# Altium schematic symbol library OSHW_LuxonisMaster_20201223.SchLib: 185 symbols (part 1 of 10)
Pins are listed as number, name and electrical type; pins without a type are passive.

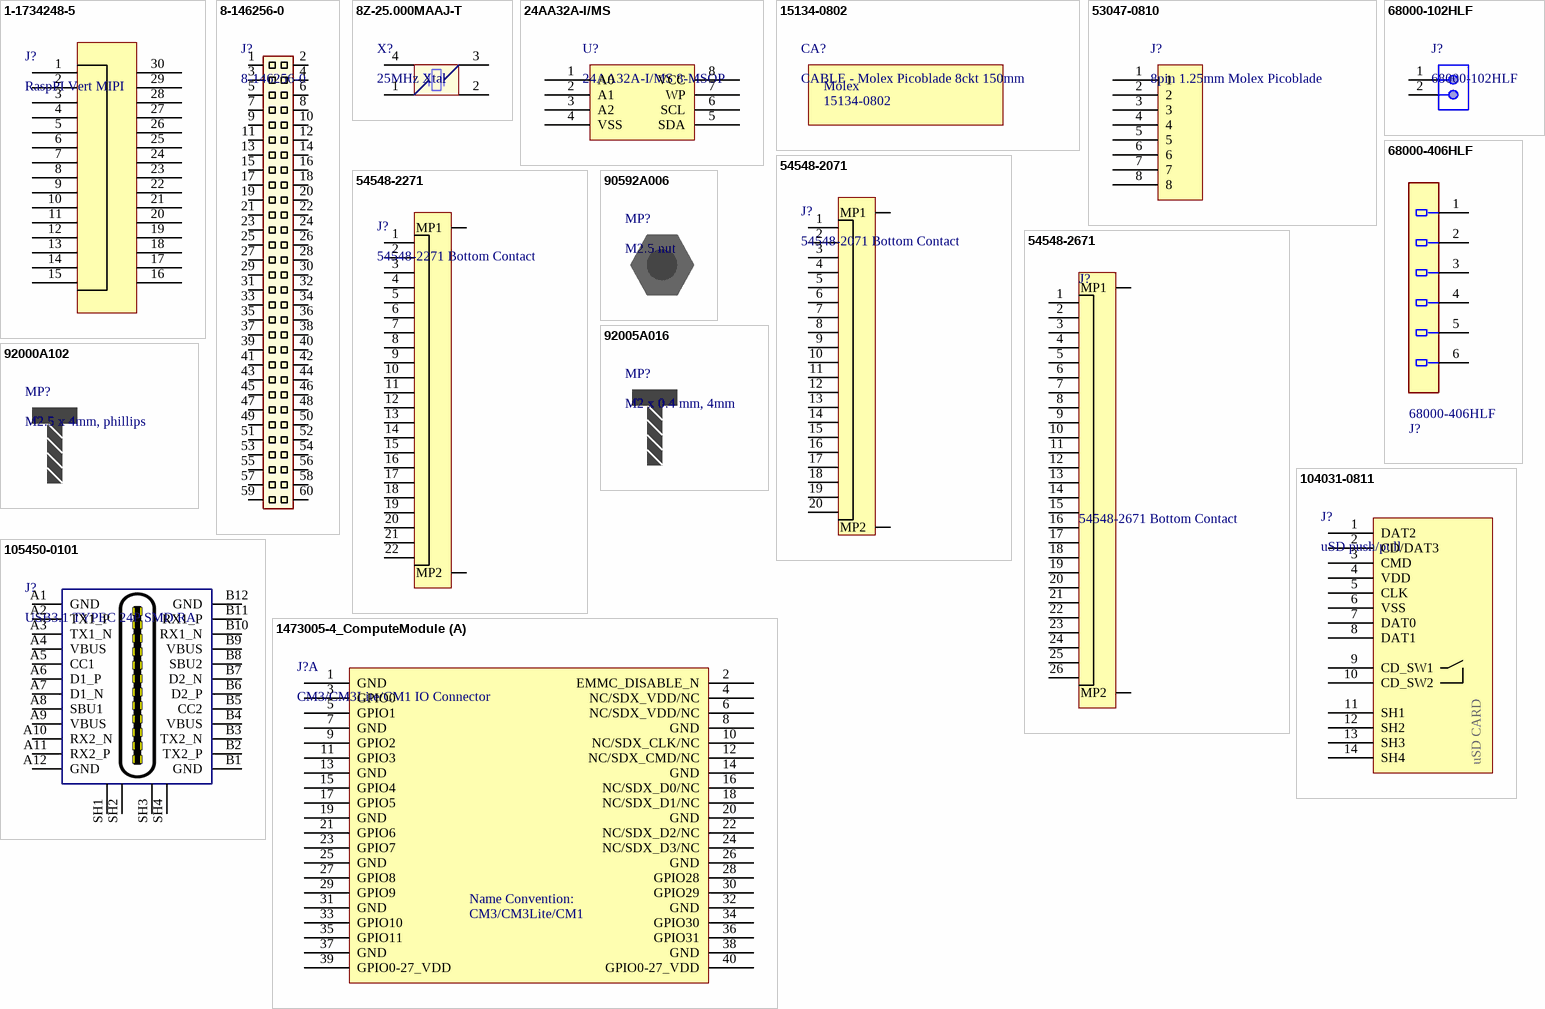
[diagram p0: symbols 1-1734248-5 to 1473005-4_ComputeModule]

## 1-1734248-5
designator J?, comment RaspPI Vert MIPI
CONN FPC VERT 15POS 1.00MM SMD; Manufacturer 1: TE Connectivity; Manufacturer Part Number 1: 1-1734248-5; Current Rating: 1A; Voltage Rating: 125V; Gender: Receptacle; Number of Positions: 15; Shielding: Unshielded; Wire/Cable Type: Flat Flex; Connector System: Flex-to-Board; Mating Alignment: Yes (With); PCB Mount Alignment: No (Without); PCB Mount Retention: With; Circuit Application: Signal; Pitch: 1mm; Supplier 1: Digi-Key; Stock 1: 5251; Pricing 1: 1=1.06000, 10=0.93600, 25=0.88120, 50=0.84460, 100=0.80780, 250=0.73440, 500=0.66094 (USD); RoHS: Yes; Mount: Surface Mount; Contact Plating: Gold; Contact Material: Bronze; Housing Color: Black; Housing Material: Thermoplastic; Min Operating Temperature: -4°C; Max Operating Temperature: 185°C; Package Quantity: 1000; Packaging: Tape and Reel; Number of Rows: 1; Termination: SMD/SMT; Number of Contacts: 15; Orientation: Straight; Connector Type: Receptacle; Sealable: No (Without); Shrouded: Yes (With); Contact Current Rating: 1A; Length: 22.4mm; Height: 7.7mm; Width: 4.6mm; Depth: 4.6mm; ELV: Compliant; REACH SVHC: Unknown; Flammability Rating: UL94 V-0; ComponentLink1URL: https://datasheet.ciiva.com/672/eng-cd-1734248-e1-672176.pdf?src-supplier=Digi-Key; ComponentLink1Description: https://datasheet.ciiva.com/672/eng-cd-1734248-e1-672176.pdf?src-supplier=Digi-Key; ComponentLink2URL: https://datasheet.ciiva.com/672/eng-cd-1734248-e1-672177.pdf?src-supplier=Digi-Key; ComponentLink2Description: https://datasheet.ciiva.com/672/eng-cd-1734248-e1-672177.pdf?src-supplier=Digi-Key; ComponentLink3URL: https://datasheet.ciiva.com/672/eng-cd-1734248-e1-672178.pdf?src-supplier=Digi-Key; ComponentLink3Description: https://datasheet.ciiva.com/672/eng-cd-1734248-e1-672178.pdf?src-supplier=Digi-Key; ComponentLink4URL: https://datasheet.ciiva.com/7989/eng-ds-1-1773440-6-0506-7989477.pdf?src-supplier=Element14; ComponentLink4Description: https://datasheet.ciiva.com/7989/eng-ds-1-1773440-6-0506-7989477.pdf?src-supplier=Element14; ComponentLink5URL: https://datasheet.ciiva.com/16660/eng-ds-1-1773440-6-0506-16660185.pdf?src-supplier=Avnet+Europe; ComponentLink5Description: https://datasheet.ciiva.com/16660/eng-ds-1-1773440-6-0506-16660185.pdf?src-supplier=Avnet+Europe; Supplier Part Number 1: A101418CT-ND; ComponentLink6URL: http://datasheet.octopart.com/1-1734248-5-TE-Connectivity-datasheet-502047.pdf?src-supplier=Master+Electronics; ComponentLink6Description: http://datasheet.octopart.com/1-1734248-5-TE-Connectivity-datasheet-502047.pdf?src-supplier=Master+Electronics; ComponentLink7URL: http://datasheet.octopart.com/1-1734248-5-TE-Connectivity-datasheet-17451040.pdf?src-supplier=Master+Electronics; ComponentLink7Description: http://datasheet.octopart.com/1-1734248-5-TE-Connectivity-datasheet-17451040.pdf?src-supplier=Master+Electronics; ComponentLink8URL: http://sigma.octopart.com/14435098/technical_drawing/TE-Connectivity-1-1734248-5.pdf?src-supplier=TE+Connectivity; ComponentLink8Description: http://sigma.octopart.com/14435098/technical_drawing/TE-Connectivity-1-1734248-5.pdf?src-supplier=TE+Connectivity; ComponentLink9URL: http://sigma.octopart.com/38754746/technical_drawing/TE-Connectivity-1-1734248-5.pdf?src-supplier=TE+Connectivity; ComponentLink9Description: http://sigma.octopart.com/38754746/technical_drawing/TE-Connectivity-1-1734248-5.pdf?src-supplier=TE+Connectivity; ComponentLink10URL: http://datasheet.octopart.com/1-1734248-5-TE-Connectivity-datasheet-137167967.pdf?src-supplier=TE+Connectivity; ComponentLink10Description: http://datasheet.octopart.com/1-1734248-5-TE-Connectivity-datasheet-137167967.pdf?src-supplier=TE+Connectivity; ComponentLink11URL: http://datasheet.octopart.com/1-1734248-5-TE-Connectivity-datasheet-128558361.pdf?src-supplier=X-ON; ComponentLink11Description: http://datasheet.octopart.com/1-1734248-5-TE-Connectivity-datasheet-128558361.pdf?src-supplier=X-ON; ComponentLink12URL: http://datasheet.octopart.com/1-1734248-5-TE-Connectivity---AMP-datasheet-537331.pdf?src-supplier=Newark; ComponentLink12Description: http://datasheet.octopart.com/1-1734248-5-TE-Connectivity---AMP-datasheet-537331.pdf?src-supplier=Newark; ComponentLink13URL: http://datasheet.octopart.com/1-1734248-5-TE-Connectivity---AMP-datasheet-542113.pdf?src-supplier=Newark; ComponentLink13Description: http://datasheet.octopart.com/1-1734248-5-TE-Connectivity---AMP-datasheet-542113.pdf?src-supplier=Newark
footprint CONN_HDR_RaspPi_MIPI (1.27mm, vertical, FPC)
pins: 1, 2, 3, 4, 5, 6, 7, 8, 9, 10, 11, 12, 13, 14, 15, 16, 17, 18, 19, 20, 21, 22, 23, 24, 25, 26, 27, 28, 29, 30

## 8-146256-0
designator J?
CONN HEADER VERT 60POS 2.54MM; Manufacturer 1: TE Connectivity; Number of Positions: 60; Connector Type: Plug; Insulation Resistance: 5GR; Board Standoff: Yes (With); Contact Protection: No (Without); High Speed Serial Data Connector: No; High Temperature Housing: Yes; PCB Mount Retention: Without; PCB Mounting Orientation: Vertical; Contact Current Rating: 3A; Contact Post Length: 0.12inch; PCB Thickness: 0.062inch; Approvals: CSA; RoHS: Yes; Mount: Through Hole; Contact Material: Bronze; Contact Plating: Gold; Color: Black; Housing Color: Black; Housing Material: Thermoplastic; Contact Shape: Square; Min Operating Temperature: -65°C; Max Operating Temperature: 105°C; Package Quantity: 50; Number of Rows: 2; Packaging: Carton; Termination: Through Hole; Number of Contacts: 60; Contact Gender: Male; Orientation: Straight; Gasket: No (Without); Keyed: No; Mating Alignment: No (Without); Mating Connector Lock: No (Without); Selectively Loaded: No (Without); Stabilizers: No (Without); Strain Relief: No (Without); Length: 75.79mm; Pitch: 2.54mm; Row Spacing: 2.54mm; Contact Mating Length: 0.23inch; Depth: 4.88mm; Radiation Hardening: No; ELV: Compliant; Flammability Rating: UL94 V-0; ComponentLink1URL: https://datasheet.ciiva.com/734/eng-cd-146256-g-146256-c-dwg-734694.pdf?src-supplier=Digi-Key; ComponentLink1Description: https://datasheet.ciiva.com/734/eng-cd-146256-g-146256-c-dwg-734694.pdf?src-supplier=Digi-Key; ComponentLink2URL: https://datasheet.ciiva.com/9491/eng-ds-1307819-ampmodu-0811-9491229.pdf?src-supplier=Avnet; ComponentLink2Description: https://datasheet.ciiva.com/9491/eng-ds-1307819-ampmodu-0811-9491229.pdf?src-supplier=Avnet; Supplier 1: Avnet; Manufacturer Part Number 1: 8-146256-0; Stock 1: 2414; Pricing 1: 100=5.54286, 200=5.38889, 300=5.24324, 500=5.10527, 1000=4.97436 (USD); Supplier Part Number 1: 8-146256-0
pins: 1, 2, 3, 4, 5, 6, 7, 8, 9, 10, 11, 12, 13, 14, 15, 16, 17, 18, 19, 20, 21, 22, 23, 24, 25, 26, 27, 28, 29, 30, 31, 32, 33, 34, 35, 36, 37, 38, 39, 40, 41, 42, 43, 44, 45, 46, 47, 48, 49, 50, 51, 52, 53, 54, 55, 56, 57, 58, 59, 60

## 8Z-25.000MAAJ-T
designator X?, comment 25MHz Xtal
CRYSTAL 25.0000MHZ 18PF SMD; Manufacturer 1: TXC; Manufacturer Part Number 1: 8Z-25.000MAAJ-T; Frequency Tolerance: 30ppm; ESR (Equivalent Series Resistance): 100R; Supplier 1: Digi-Key; Stock 1: 7343; Pricing 1: 1=1.36000, 10=1.30100, 50=1.27060, 100=1.08900, 500=1.05876, 1000=0.89238 (USD); RoHS: Yes; Mount: Surface Mount; Case/Package: SMD/SMT; Number of Pins: 4; Min Operating Temperature: -10°C; Max Operating Temperature: 70°C; Frequency: 25MHz; Load Capacitance: 18pF; Packaging: Tape and Reel; Package Quantity: 3000; Tolerance: 30ppm; Frequency Stability: 30ppm; Termination: SMD/SMT; Length: 2.5mm; Height: 0.022inch; Width: 2mm; Depth: 2.05mm; REACH SVHC: No SVHC; Lead Free: Lead Free; ComponentLink1URL: https://datasheet.ciiva.com/26833/getdatasheetpartid-743023-26833236.pdf?src-supplier=Verical; ComponentLink1Description: https://datasheet.ciiva.com/26833/getdatasheetpartid-743023-26833236.pdf?src-supplier=Verical; ComponentLink2URL: https://datasheet.ciiva.com/22698/1041872-22698773.pdf?src-supplier=Element14; ComponentLink2Description: https://datasheet.ciiva.com/22698/1041872-22698773.pdf?src-supplier=Element14; ComponentLink3URL: https://datasheet.ciiva.com/1356/number-crystal-basic-1356678.pdf?src-supplier=Element14; ComponentLink3Description: https://datasheet.ciiva.com/1356/number-crystal-basic-1356678.pdf?src-supplier=Element14; ComponentLink4URL: https://datasheet.ciiva.com/859/8z-859017.pdf?src-supplier=Digi-Key; ComponentLink4Description: https://datasheet.ciiva.com/859/8z-859017.pdf?src-supplier=Digi-Key; ComponentLink5URL: https://datasheet.ciiva.com/859/8z-859018.pdf?src-supplier=Digi-Key; ComponentLink5Description: https://datasheet.ciiva.com/859/8z-859018.pdf?src-supplier=Digi-Key; ComponentLink6URL: https://datasheet.ciiva.com/859/8z-859019.pdf?src-supplier=Digi-Key; ComponentLink6Description: https://datasheet.ciiva.com/859/8z-859019.pdf?src-supplier=Digi-Key; Supplier 2: Mouser; Supplier Part Number 1: 887-1145-1-ND; Supplier Part Number 2: 717-8Z-25.000MAAJ-T
footprint 8Z-25.000MAAJ-T (2.5 x 2.0 x 0.5mm 8Z series XTAL)
pins: 1 OSC1, 2, 3 OSC3, 4

## 24AA32A-I/MS
designator U?, comment 24AA32A-I/MS 8-MSOP
IC EEPROM 32K I2C 400KHZ 8MSOP Memory IC 32Kb (4K x 8) I²C 400kHz 900ns 8-MSOP; Manufacturer 1: Microchip; Interface: I2C,Serial,2-Wire; Access Time: 3500ns; Max Supply Voltage: 5.5V; Min Supply Voltage: 1.7V; Nominal Supply Current: 3mA; Supplier 1: Digi-Key; Stock 1: 4213; Pricing 1: 1=0.39000, 25=0.38120, 100=0.36050 (USD); RoHS: Yes; Mount: Surface Mount; Case/Package: MSOP; Number of Pins: 8; Contact Plating: Tin,Matte; Min Operating Temperature: -40°C; Max Operating Temperature: 85°C; Max Frequency: 400kHz; Frequency: 400kHz; Packaging: Rail/Tube; Density: 32Kb; Memory Size: 32Kb; Package Quantity: 100; Length: 3mm; Height: 0.85mm; Width: 3mm; Radiation Hardening: No; Lead Free: Lead Free; REACH SVHC: No SVHC; ComponentLink1URL: https://datasheet.ciiva.com/16309/filehandler-aspxddocname-en011853-16309808.pdf?src-supplier=Future+Electronics; ComponentLink1Description: https://datasheet.ciiva.com/16309/filehandler-aspxddocname-en011853-16309808.pdf?src-supplier=Future+Electronics; ComponentLink2URL: https://datasheet.ciiva.com/16621/21713l-16621382.pdf?src-supplier=Avnet+Europe; ComponentLink2Description: https://datasheet.ciiva.com/16621/21713l-16621382.pdf?src-supplier=Avnet+Europe; ComponentLink3URL: https://datasheet.ciiva.com/3185/21713l-3185209.pdf?src-supplier=Avnet; ComponentLink3Description: https://datasheet.ciiva.com/3185/21713l-3185209.pdf?src-supplier=Avnet; ComponentLink4URL: https://datasheet.ciiva.com/1154/1688094-1154810.pdf?src-supplier=Element14; ComponentLink4Description: https://datasheet.ciiva.com/1154/1688094-1154810.pdf?src-supplier=Element14; ComponentLink5URL: https://datasheet.ciiva.com/41454/001085239-da-01-en-ic-eeprom-32kbit-24aa32a-i-ms-msop-8-mcp-41454934.pdf?src-supplier=Conrad; ComponentLink5Description: https://datasheet.ciiva.com/41454/001085239-da-01-en-ic-eeprom-32kbit-24aa32a-i-ms-msop-8-mcp-41454934.pdf?src-supplier=Conrad; Supplier Part Number 1: 24AA32A-I/MS-ND; Memory Type: EEPROM; Manufacturer Part Number 1: 24AA32A-I/MS; Supplier 2: Mouser; Supplier 3: Newark; Supplier Part Number 2: 579-24AA32A-I/MS; Supplier Part Number 3: 38AH9658
footprint 24AA32A-I/MS (Body: 3 x 3mm, pitch: 0.65mm)
pins: 1 A0, 2 A1, 3 A2, 4 VSS, 5 SDA, 6 SCL, 7 WP, 8 VCC

## 15134-0802
designator CA?, comment CABLE - Molex Picoblade 8ckt 150mm  Manufacturer Part Number 1: 15134-0802  Manufacturer 1: Molex
CABLE ASSY POWER CORD, 8P CRIMP SOCKET, 150MM, BLK; Supplier 1: Digi-Key; Stock 1: 1432; Pricing 1: 1=5.34000, 10=5.12300, 25=4.69560, 50=4.48220, 100=4.26880, 250=3.73520, 500=3.62848, 1000=3.09488, 2500=2.88144 (USD); RoHS: Yes; Color: Black; ComponentLink1URL: http://www.farnell.com/datasheets/2549566.pdf?src-supplier=Farnell; ComponentLink1Description: http://www.farnell.com/datasheets/2549566.pdf?src-supplier=Farnell; Supplier 2: Mouser; Supplier Part Number 1: WM15274-ND; Supplier Part Number 2: 538-15134-0802
footprint 15134-0802 (Cable Assembly, Single Row, 150.00mm Length, 8 Circuits)

## 53047-0810
designator J?, comment 8pin 1.25mm Molex Picoblade
CONN HEADER VERT 8POS 1.25MM  Connector Header Through Hole 8 position 0.049" (1.25mm); Manufacturer Part Number 1: 53047-0810; Number of Contacts: 8; Contact Resistance: 20mR; Gender: Male; Current Rating: 1A; Voltage Rating: 125V; Insulation Resistance: 100MR; Glow Wire Compliant: Non-compliant; Supplier 1: Digi-Key; Manufacturer 1: Molex; Stock 1: 10707; Pricing 1: 1=0.54000, 10=0.50500, 100=0.38690, 500=0.33644, 1000=0.27756, 5000=0.24392, 10000=0.22710 (USD); RoHS: Yes; Mount: Through Hole; Case/Package: 0810; Contact Plating: Tin; Contact Material: Bronze,Brass,Tin; Color: Natural; Housing Color: Natural; Housing Material: Polyamide; Min Operating Temperature: -40°C; Max Operating Temperature: 85°C; Termination: Through Hole; Number of Rows: 1; Orientation: Vertical; Packaging: Tray; Number of Positions: 8; Package Quantity: 2000; Voltage Rating (DC): 125V; Number of Circuits: 8; Pitch: 1.25mm; Radiation Hardening: No; REACH SVHC: Unknown; Lead Free: Lead Free; Flammability Rating: UL94 V-0; ComponentLink1URL: https://datasheet.ciiva.com/30110/64290530470810-pcb-headers-30110449.pdf?src-supplier=Onlinecomponents.com; ComponentLink1Description: https://datasheet.ciiva.com/30110/64290530470810-pcb-headers-30110449.pdf?src-supplier=Onlinecomponents.com; ComponentLink2URL: https://datasheet.ciiva.com/5155/0530470810-pcb-headers-170988-5155236.pdf?src-supplier=Mouser; ComponentLink2Description: https://datasheet.ciiva.com/5155/0530470810-pcb-headers-170988-5155236.pdf?src-supplier=Mouser; ComponentLink3URL: https://datasheet.ciiva.com/11747/0900766b8024e2fd-11747012.pdf?src-supplier=RSComponents; ComponentLink3Description: https://datasheet.ciiva.com/11747/0900766b8024e2fd-11747012.pdf?src-supplier=RSComponents; ComponentLink4URL: https://datasheet.ciiva.com/25291/1815828-25291355.pdf?src-supplier=Newark; ComponentLink4Description: https://datasheet.ciiva.com/25291/1815828-25291355.pdf?src-supplier=Newark; ComponentLink5URL: https://datasheet.ciiva.com/34303/1932504-34303339.pdf?src-supplier=Jameco; ComponentLink5Description: https://datasheet.ciiva.com/34303/1932504-34303339.pdf?src-supplier=Jameco; ComponentLink6URL: https://datasheet.ciiva.com/16658/0530470810-pcb-headers-16658422.pdf?src-supplier=Avnet+Europe; ComponentLink6Description: https://datasheet.ciiva.com/16658/0530470810-pcb-headers-16658422.pdf?src-supplier=Avnet+Europe; ComponentLink7URL: https://datasheet.ciiva.com/17025/70266944-17025467.pdf?src-supplier=Allied+Electronics; ComponentLink7Description: https://datasheet.ciiva.com/17025/70266944-17025467.pdf?src-supplier=Allied+Electronics; ComponentLink8URL: https://datasheet.ciiva.com/14156/ge116819-116832-e-14156239.pdf?src-supplier=Distrelec; ComponentLink8Description: https://datasheet.ciiva.com/14156/ge116819-116832-e-14156239.pdf?src-supplier=Distrelec; Supplier 2: Mouser; Supplier Part Number 1: WM1737-ND; Supplier Part Number 2: 538-53047-0810
footprint 53047-0810 (1.25mm Pitch, PicoBlade PCB Header, Single Row, Vertical, Through Hole, Tin Plating, Friction Lock, 8 Circuits)
pins: 1, 2, 3, 4, 5, 6, 7, 8

## 54548-2071
designator J?, comment 54548-2071 Bottom Contact
CONN FFC BOTTOM 20POS 0.50MM R/A 20 Position FFC, FPC Connector Contacts, Bottom 0.020" (0.50mm) Surface Mount, Right Angle; Manufacturer_Name: Molex; Actuator Material: Polyphenylene; Current Rating: 500mA; Voltage Rating: 50V; Contact Resistance: 40mR; Number of Positions: 20; Wire/Cable Type: Straight; Pitch: 0.02inch; Datasheet Link: http://www.molex.com/webdocs/datasheets/pdf/en-us//0545482271_FFC_FPC_CONNECTORS.pdf; Height: 1mm; Manufacturer_Part_Number: 54548-2071; Mouser Part Number: 538-54548-2071; Mouser Price/Stock: https://www.mouser.com/Search/Refine.aspx?Keyword=538-54548-2071; Supplier 1: Digi-Key; Manufacturer 1: Molex; Manufacturer Part Number 1: 54548-2071; Stock 1: 15609; Pricing 1: 1=2.57000, 10=2.33100, 25=2.18840, 50=2.09340, 100=1.99820, 250=1.80784 (USD); RoHS: Yes; Mount: Surface Mount; Contact Material: Bronze; Contact Plating: Gold; Housing Color: Black; Housing Material: Polymer; Min Operating Temperature: -20°C; Max Operating Temperature: 85°C; Number of Rows: 1; Termination: Solder; Orientation: Right Angle; Package Quantity: 750; Packaging: Tape and Reel; Mating Cycles: 20; Length: 15.2mm; Depth: 5mm; Radiation Hardening: No; Flammability Rating: UL94 V-0; ComponentLink1URL: https://datasheet.ciiva.com/15244/30580545482071-ffc-fpc-nectors-15244814.pdf?src-supplier=Arrow+Europe; ComponentLink1Description: https://datasheet.ciiva.com/15244/30580545482071-ffc-fpc-nectors-15244814.pdf?src-supplier=Arrow+Europe; Supplier 2: Mouser; Manufacturer 2: Molex; Manufacturer Part Number 2: 54548-2071; Stock 2: 4396; Pricing 2: 1=2.16000, 10=1.90000, 100=1.73000, 250=1.51000, 500=1.47000, 1000=1.25000, 3000=1.16000, 6000=1.12000 (USD); Supplier Part Number 1: WM8829CT-ND; Supplier Part Number 2: 538-54548-2071
footprint 54548-2071 (20pin Molex FFC 0.5mm)
pins: 1, 2, 3, 4, 5, 6, 7, 8, 9, 10, 11, 12, 13, 14, 15, 16, 17, 18, 19, 20, MP1, MP2

## 54548-2271
designator J?, comment 54548-2271 Bottom Contact
CONN FFC BOTTOM 22POS 0.50MM R/A 22 Position FFC, FPC Connector Contacts, Bottom 0.020" (0.50mm) Surface Mount, Right Angle; Manufacturer_Name: Molex; Current Rating: 500mA; Voltage Rating: 50V; Number of Positions: 22; Gender: Receptacle; Stackable: No; Pitch: 0.5mm; Datasheet Link: http://www.molex.com/webdocs/datasheets/pdf/en-us//0545482271_FFC_FPC_CONNECTORS.pdf; Height: 1mm; Manufacturer_Part_Number: 54548-2271; Mouser Part Number: 538-54548-2271; Mouser Price/Stock: https://www.mouser.com/Search/Refine.aspx?Keyword=538-54548-2271; RoHS: Yes; Contact Material: Gold,Bronze; Contact Plating: Tin,Gold; Housing Material: Polymer; Material: Bronze; Package Quantity: 3000; Packaging: Tape and Reel; Termination: SMD/SMT; Number of Rows: 1; Orientation: Right Angle; Number of Contacts: 22; Contact Location: Bottom; Number of Circuits: 22; REACH SVHC: Unknown; ELV: Compliant; ComponentLink1URL: https://datasheet.ciiva.com/5137/0545482271-ffc-fpc-connectors-144074-5137296.pdf?src-supplier=Mouser; ComponentLink1Description: https://datasheet.ciiva.com/5137/0545482271-ffc-fpc-connectors-144074-5137296.pdf?src-supplier=Mouser; Supplier 1: Digi-Key; Manufacturer 1: Molex; Manufacturer Part Number 1: 54548-2271; Stock 1: 2489; Pricing 1: 1=2.59000, 10=2.48700, 25=2.27960, 50=2.17600, 100=2.07240, 250=1.81336, 500=1.76154, 1000=1.50249 (USD); Supplier 2: Mouser; Manufacturer 2: Molex; Manufacturer Part Number 2: 54548-2271; Stock 2: 11105; Pricing 2: 1=1.40000, 10=1.40000, 100=1.40000, 250=1.40000, 500=1.40000, 1000=1.37000, 3000=1.31000, 6000=1.25000 (USD); Supplier Part Number 1: WM8828CT-ND; Supplier Part Number 2: 538-54548-2271
footprint 54548-2271 (22pin Molex FFC 0.5mm)
pins: 1, 2, 3, 4, 5, 6, 7, 8, 9, 10, 11, 12, 13, 14, 15, 16, 17, 18, 19, 20, 21, 22, MP1, MP2

## 54548-2671
designator J?, comment 54548-2671 Bottom Contact
CONN FFC BOTTOM 26POS 0.50MM R/A 26 Position FFC, FPC Connector Contacts, Bottom 0.020" (0.50mm) Surface Mount, Right Angle; Manufacturer_Name: Molex; Actuator Material: Polyphenylene; Current Rating: 500mA; Voltage Rating: 50V; Contact Resistance: 40mR; Number of Positions: 26; Wire/Cable Type: Straight; Pitch: 0.5mm; Datasheet Link: https://www.molex.com/molex/products/datasheet.jsp?part=active/0545482671_FFC_FPC_CONNECTORS.xml&channel=Products&Lang=en-US; Height: 1mm; Manufacturer_Part_Number: 54548-2671; Mouser Part Number: 538-54548-2671; Mouser Price/Stock: https://eu.mouser.com/ProductDetail/Molex/54548-2671?qs=sGAEpiMZZMs7i6cT6ogu49DbkzKdWzYdwOJCTNigfgU%3D; RoHS: Yes; Mount: Surface Mount; Contact Material: Bronze; Contact Plating: Gold; Housing Material: Polymer; Housing Color: Black; Min Operating Temperature: -20°C; Max Operating Temperature: 85°C; Number of Rows: 1; Package Quantity: 750; Packaging: Tape and Reel; Termination: Solder; Number of Contacts: 26; Orientation: Right Angle; Length: 18.2mm; Depth: 5mm; Flammability Rating: UL94 V-0; ComponentLink1URL: https://datasheet.ciiva.com/5137/0545482671-ffc-fpc-connectors-146697-5137857.pdf?src-supplier=Mouser; ComponentLink1Description: https://datasheet.ciiva.com/5137/0545482671-ffc-fpc-connectors-146697-5137857.pdf?src-supplier=Mouser; Supplier 1: Mouser; Manufacturer 1: Molex; Manufacturer Part Number 1: 54548-2671; Stock 1: 6344; Pricing 1: 1=3.03000, 10=2.86000, 25=2.55000, 100=2.42000, 250=2.12000, 500=2.07000 (USD); Supplier 2: Arrow; Manufacturer 2: Molex; Manufacturer Part Number 2: 54548-2671; Stock 2: 11173; Pricing 2: 1=3.50200, 10=3.34800, 25=3.06600, 100=2.78390, 250=2.43800, 500=2.41400, 1000=2.25990, 3000=2.10600, 6000=1.95200, 12000=1.73300, 24000=1.71600, 48000=1.69900, 60000=1.68200 (USD); Supplier Part Number 2: 0545482671; Supplier Part Number 1: 538-54548-2671
footprint 54548-2671 (26pin Molex FFC 0.5mm)
pins: 1, 2, 3, 4, 5, 6, 7, 8, 9, 10, 11, 12, 13, 14, 15, 16, 17, 18, 19, 20, 21, 22, 23, 24, 25, 26, MP1, MP2

## 68000-102HLF
designator J?
CONN HEADER VERT 2POS 2.54MM; Manufacturer 1: Amphenol FCI; Number of Contacts: 2; Connector Type: Male Pin; Current Rating: 3A; Gender: Male; Voltage Rating: 1.5kV; Insulation Resistance: 5GR; Contact Post Length: 2.41mm; Supplier 1: Digi-Key; Manufacturer Part Number 1: 68000-102HLF; Stock 1: 23525; Pricing 1: 1=0.20000, 10=0.19000, 100=0.13180, 500=0.11154, 1000=0.09126, 5000=0.08112, 10000=0.07352 (USD); RoHS: Yes; Mount: Through Hole; Contact Material: Bronze; Contact Plating: Gold,GXT; Color: Black; Housing Material: Thermoplastic; Housing Color: Black; Min Operating Temperature: -65°C; Max Operating Temperature: 125°C; Number of Rows: 1; Termination: Solder; Packaging: Bulk; Number of Positions: 2; Orientation: Straight; Package Quantity: 100; Contact Gender: Male; Max Voltage Rating (AC): 1.5kV; Voltage Rating (DC): 1.5kV; Length: 5.08mm; Pitch: 2.54mm; Contact Mating Length: 0.23inch; Depth: 2.41mm; Radiation Hardening: No; Lead Free: Lead Free; Flammability Rating: UL94 V-0; ComponentLink1URL: https://datasheet.ciiva.com/5149/68000-274228-5149165.pdf?src-supplier=Mouser; ComponentLink1Description: https://datasheet.ciiva.com/5149/68000-274228-5149165.pdf?src-supplier=Mouser; ComponentLink2URL: https://datasheet.ciiva.com/722/68000-722084.pdf?src-supplier=Digi-Key; ComponentLink2Description: https://datasheet.ciiva.com/722/68000-722084.pdf?src-supplier=Digi-Key; ComponentLink3URL: https://datasheet.ciiva.com/16726/68000-16726309.pdf?src-supplier=Avnet+Europe; ComponentLink3Description: https://datasheet.ciiva.com/16726/68000-16726309.pdf?src-supplier=Avnet+Europe; ComponentLink4URL: https://datasheet.ciiva.com/10149/68000-10149324.pdf?src-supplier=Avnet; ComponentLink4Description: https://datasheet.ciiva.com/10149/68000-10149324.pdf?src-supplier=Avnet; Supplier Part Number 1: 609-3500-ND
footprint 68000-102HLF (THD, 2-Leads, Body 5.08x2.41mm, Pitch 2.54mm)
pins: 1, 2

## 68000-406HLF
designator J?
CONN HEADER VERT 6POS 2.54MM; Manufacturer: Amphenol; Manufacturer 1: Amphenol FCI; Current Rating: 3A; Voltage Rating: 1.5kV; Number of Positions: 6; Insulation Resistance: 5GR; Gender: Male; Connector Type: Male Pin; Contact Post Length: 2.41mm; helpURL: https://upverter.com/upn/revision/efcd5b64202e3915/; ComponentLink2Description: Datasheet; Temperature: -65°C to +125°C; Package: HDR6; Supplier 2: Mouser; Price: 0.158812296265; Supplier 1: Digi-Key; ComponentLink1URL: https://upverter.com/upn/revision/efcd5b64202e3915/; Supplier Part Number 2: 649-68000-406HLF; Supplier Part Number 1: 609-3263-ND; ComponentLink1Description: Upverter; ComponentLink2URL: http://portal.fciconnect.com/Comergent//fci/drawing/68000.pdf; RoHS: Yes; Mouser Part Number: 649-68000-406HLF; Temperature Range High: +125°C; Digikey Description: CONN HEADER 6POS .100 STR TIN; Digikey Part Number: 609-3263-ND; Lead Free: yes; Temperature Range Low: -65°C; Manufacturer Part Number 1: 68000-406HLF; Stock 1: 17098; Pricing 1: 1=0.27000, 10=0.25200, 100=0.17450, 500=0.14762, 1000=0.12078, 5000=0.10736, 10000=0.09730 (USD); Mount: Through Hole; Contact Plating: Tin; Contact Material: Bronze; Color: Black; Housing Color: Black; Housing Material: Thermoplastic; Min Operating Temperature: -65°C; Max Operating Temperature: 125°C; Packaging: Bulk; Number of Rows: 1; Contact Gender: Male; Package Quantity: 100; Termination: Solder; Number of Contacts: 6; Max Voltage Rating (AC): 1.5kV; Orientation: Straight; Length: 15.24mm; Pitch: 2.54mm; Contact Mating Length: 0.23inch; Depth: 2.41mm; Radiation Hardening: No; REACH SVHC: No SVHC; Flammability Rating: UL94 V-0; ComponentLink3URL: https://datasheet.ciiva.com/728/68000-728888.pdf?src-supplier=Digi-Key; ComponentLink3Description: https://datasheet.ciiva.com/728/68000-728888.pdf?src-supplier=Digi-Key; Part Number: 68000-406HLF
footprint Amphenol_68000-406HLF_0 (Footprint not found)
pins: 1, 2, 3, 4, 5, 6

## 90592A006
designator MP?, comment M2.5 nut  (mechanical)
Low-Strength, M2.5 x 0.45 mm Thread Steel Hex Nut; Manufacturer Part Number 1: 90592A006; Manufacturer 1: McMaster-Carr; Supplier 1: McMaster-Carr; Supplier Part Number 1: 90592A006
footprint 90592A006 (Steel Hex Nut  Low-Strength, M2.5 x 0.45 mm Thread)

## 92000A102
designator MP?, comment M2.5 x 4mm, phillips  (mechanical)
M2.5 x 0.45mm Thread, 4mm Long Passivated 18-8 Stainless Steel Pan Head Phillips Screws; Manufacturer Part Number 1: 92000A102; Manufacturer 1: McMaster-Carr; Supplier Part Number 1: 92000A102; Supplier 1: McMaster-Carr
footprint 92000A102 (Passivated 18-8 Stainless Steel Pan Head Phillips Screws  M2.5 x 0.45mm Thread, 4mm Long)

## 92005A016
designator MP?, comment M2 x 0.4 mm, 4mm  (mechanical)
MP SCREW 92005A016 McMasterCarr Steel Pan Head Phillips Screw M2 x 0.4 mm Thread, 4 mm Long; ComponentLink1Description: 92005A016 McMasterCarr; ComponentLink1URL: https://www.mcmaster.com/92005a016

## 104031-0811
designator J?, comment uSD push/pull
CONN MICRO SD CARD PUSH-PULL R/A; Manufacturer 1: Molex; Manufacturer Part Number 1: 104031-0811; Supplier 1: Digi-Key; Stock 1: 19400; Pricing 1: 1=2.02000, 10=1.82900, 25=1.71680, 50=1.64220, 100=1.56760, 250=1.41828, 500=1.30630, 1000=1.11969 (USD); RoHS: Yes; Supplier 2: Newark; Supplier 3: Mouser; Supplier Part Number 1: WM6357CT-ND; Supplier Part Number 2: 99R5410; Supplier Part Number 3: 538-104031-0811
footprint 104031-0811 (10 (8 + 2) Position Card Connector Secure Digital - microSD™ Surface Mount, Right Angle Gold)
pins: 1 DAT2, 2 CD/DAT3, 3 CMD, 4 VDD, 5 CLK, 6 VSS, 7 DAT0, 8 DAT1, 9 CD_SW1, 10 CD_SW2, 11 SH1, 12 SH2, 13 SH3, 14 SH4
text: uSD CARD

## 105450-0101
designator J?, comment USB3.1 TYPEC 24P SMD RA
CONN RCP USB3.1 TYPEC 24P SMD RA; Manufacturer 1: Molex; Manufacturer Part Number 1: 105450-0101; Connector Type: USB; Number of Contacts: 24; Gender: Receptacle; Number of Ports: 1; Current Rating: 5A; Mating Cycles: 10000; Shielding: Shielded; Pitch: 0.5mm; Supplier 1: Digi-Key; Stock 1: 13882; Pricing 1: 1=2.15000, 10=1.94900, 25=1.82960, 50=1.75000, 100=1.67050, 250=1.51140, 500=1.39208 (USD); RoHS: Yes; Mount: Surface Mount,Through Hole,Horizontal; Case/Package: 0101; Number of Pins: 24; Contact Material: Copper Alloy; Contact Plating: Gold; Number of Terminals: 24; Housing Material: Thermoplastic; Insulation Color: Black; Min Operating Temperature: -30°C; Max Operating Temperature: 85°C; Packaging: Tape and Reel; Orientation: Right Angle; Termination: Solder; USB Standard: USB 3.1; Features: Shielded; Length: 8.94mm; REACH SVHC: Unknown; Flammability Rating: UL94 V-0; ComponentLink1URL: http://www.farnell.com/datasheets/2673427.pdf?src-supplier=Farnell; ComponentLink1Description: http://www.farnell.com/datasheets/2673427.pdf?src-supplier=Farnell; ComponentLink2URL: http://www.farnell.com/datasheets/2801634.pdf?src-supplier=Farnell; ComponentLink2Description: http://www.farnell.com/datasheets/2801634.pdf?src-supplier=Farnell; ComponentLink3URL: http://www.farnell.com/datasheets/2672741.pdf?src-supplier=Newark; ComponentLink3Description: http://www.farnell.com/datasheets/2672741.pdf?src-supplier=Newark; ComponentLink4URL: https://www.molex.com/pdm_docs/sd/1054500101_sd.pdf?src-supplier=Digi-Key; ComponentLink4Description: https://www.molex.com/pdm_docs/sd/1054500101_sd.pdf?src-supplier=Digi-Key; ComponentLink5URL: https://www.molex.com/pdm_docs/ps/PS-105448-001.pdf?src-supplier=Digi-Key; ComponentLink5Description: https://www.molex.com/pdm_docs/ps/PS-105448-001.pdf?src-supplier=Digi-Key; ComponentLink6URL: http://www.farnell.com/datasheets/2015275.pdf?src-supplier=Element14; ComponentLink6Description: http://www.farnell.com/datasheets/2015275.pdf?src-supplier=Element14; ComponentLink7URL: http://www.literature.molex.com/SQLImages/kelmscott/Molex/PDF_Images/987651-4081.PDF?src-supplier=Avnet; ComponentLink7Description: http://www.literature.molex.com/SQLImages/kelmscott/Molex/PDF_Images/987651-4081.PDF?src-supplier=Avnet; ComponentLink8URL: http://www.literature.molex.com/SQLImages/kelmscott/Molex/PDF_Images/987651-4081.PDF?src-supplier=Avnet+Asia; ComponentLink8Description: http://www.literature.molex.com/SQLImages/kelmscott/Molex/PDF_Images/987651-4081.PDF?src-supplier=Avnet+Asia; Supplier Part Number 1: WM12856CT-ND; Supplier 2: Newark; Supplier 3: Mouser; Supplier Part Number 2: 02AH5567; Supplier Part Number 3: 538-105450-0101
footprint 105450-0101 (USB3.1 Type-C Molex SMT, RA, TH)
pins: A1 GND, A2 TX1_P, A3 TX1_N, A4 VBUS, A5 CC1, A6 D1_P, A7 D1_N, A8 SBU1, A9 VBUS, A10 RX2_N, A11 RX2_P, A12 GND, B1 GND, B2 TX2_P, B3 TX2_N, B4 VBUS, B5 CC2, B6 D2_P, B7 D2_N, B8 SBU2, B9 VBUS, B10 RX1_N, B11 RX1_P, B12 GND, SH1 SH, SH2 SH, SH3 SH, SH4 SH

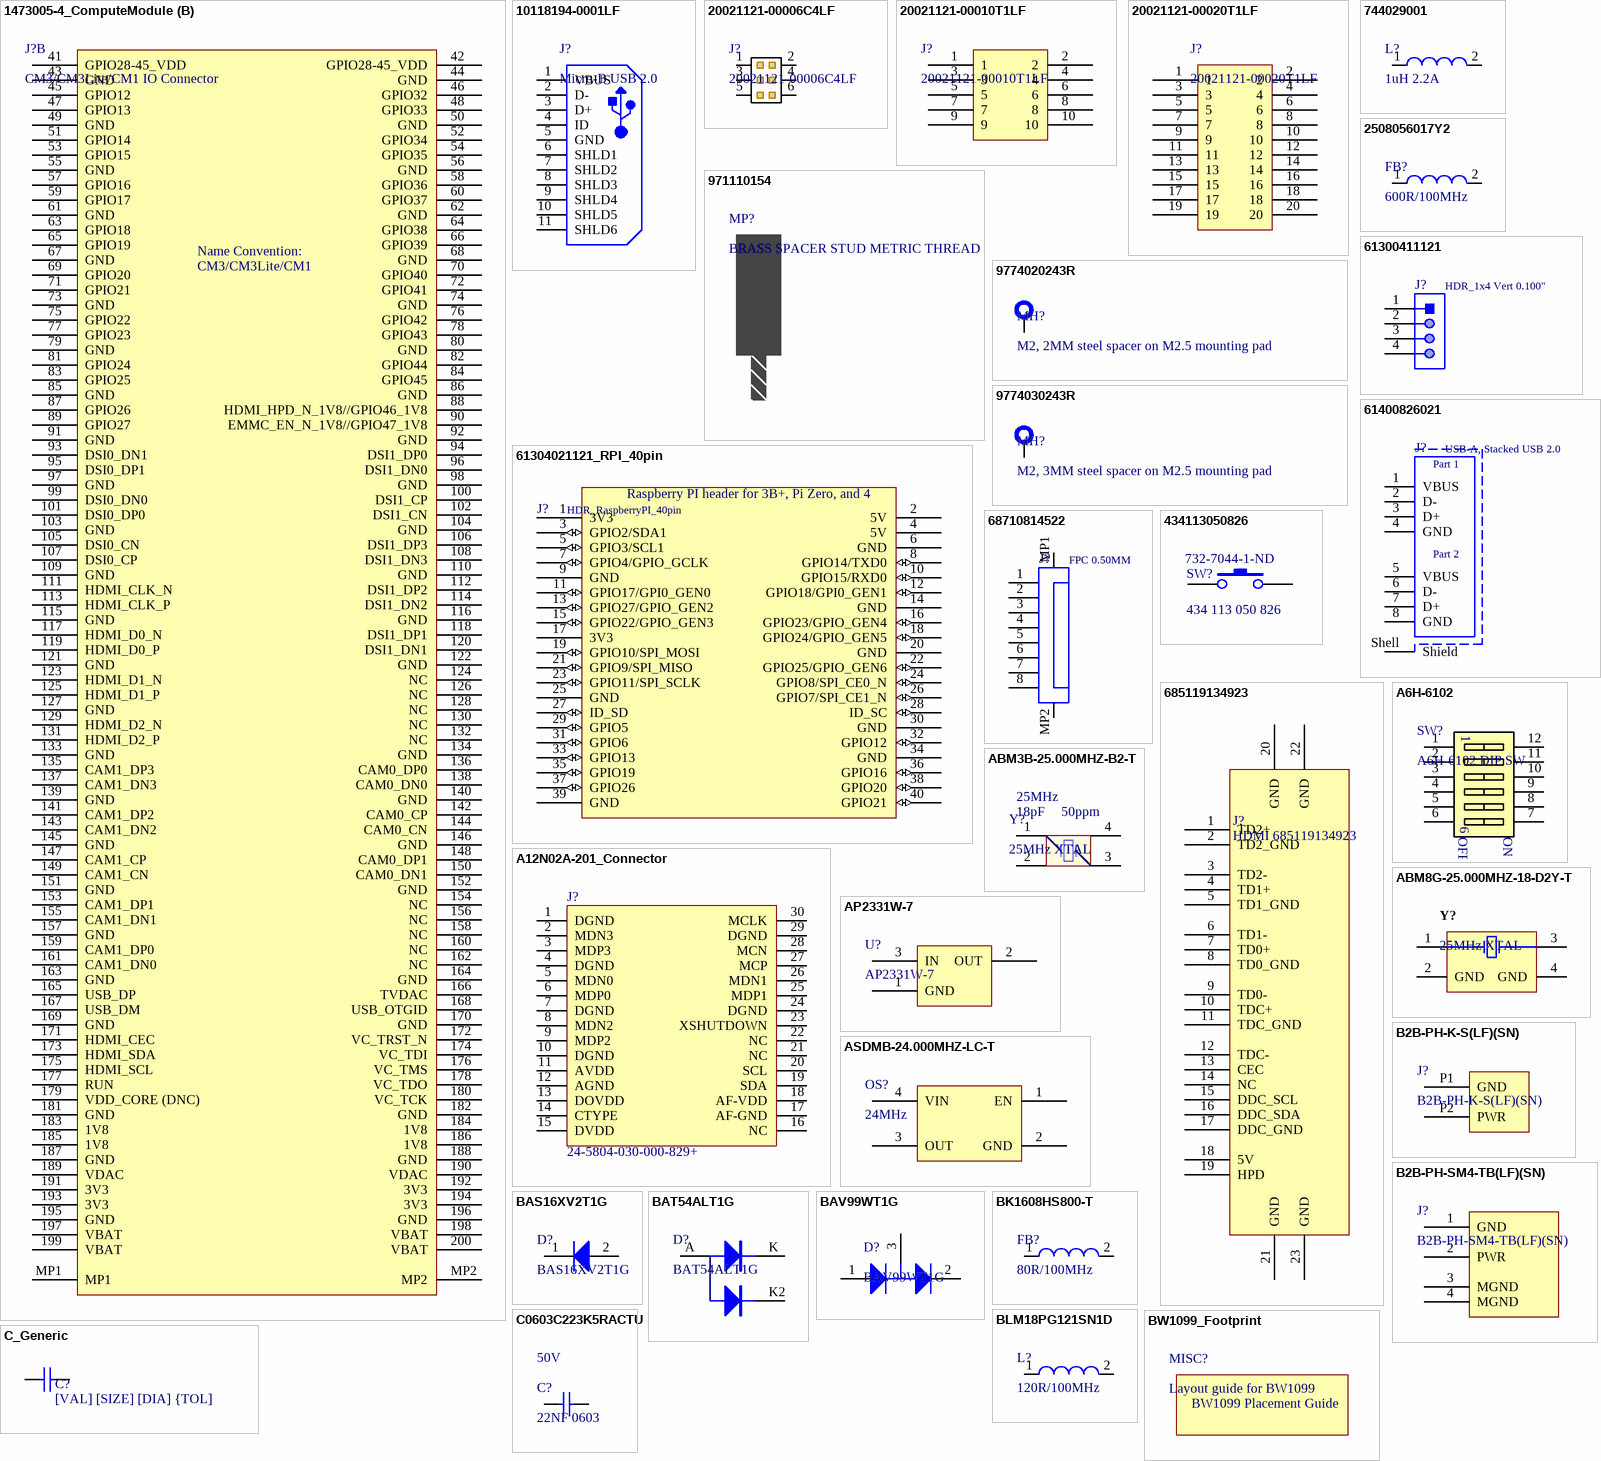
[diagram p1: symbols 1473005-4_ComputeModule to C_Generic]

## 1473005-4_ComputeModule
designator J?, comment CM3/CM3Lite/CM1 IO Connector
CONN SKT SODIMM 200POS R/A SMD CM3/CM3Lite/CM1 IO Connector; Manufacturer 1: AMP - TE CONNECTIVITY; Manufacturer Part Number 1: 1473005-4; Number of Contacts: 200; Voltage Rating: 1.8V; Memory Type: SDRAM,DDR; PCB Mount Retention: With; Insulation Resistance: 250MR; Contact Current Rating: 500mA; Circuit Application: Power; Connector System: Cable-to-Board; Sealable: No (Without); Gender: Female; Connector Type: Socket; Pitch: 0.6mm; Row Spacing: 0.244inch; Stack Height: 5.2mm; Supplier 1: Digi-Key; Stock 1: 9819; Pricing 1: 1=4.23000, 10=4.06500, 25=3.72640, 50=3.55700, 100=3.38760, 250=2.96416, 500=2.87946, 1000=2.45601, 2500=2.28663 (USD); RoHS: Yes; Mount: Surface Mount; Number of Pins: 200; Contact Material: Copper Alloy; Contact Plating: Gold; Housing Color: Black; Housing Material: Thermoplastic; Insulation Material: Thermoplastic; Min Operating Temperature: -67°C; Max Operating Temperature: 185°C; Number of Rows: 2; Orientation: Right Angle; Termination: Solder; Packaging: Tray; Package Quantity: 20; Number of Positions: 200; Length: 71.5mm; Depth: 26mm; Radiation Hardening: No; ELV: Compliant; Flammability Rating: UL94 V-0; Lead Free: Lead Free; REACH SVHC: No SVHC; ComponentLink1URL: https://datasheet.ciiva.com/682/eng-cd-1473005-j2-682720.pdf?src-supplier=Farnell; ComponentLink1Description: https://datasheet.ciiva.com/682/eng-cd-1473005-j2-682720.pdf?src-supplier=Farnell; ComponentLink2URL: https://datasheet.ciiva.com/15171/getdatasheetpartid-99150-15171488.pdf?src-supplier=Verical; ComponentLink2Description: https://datasheet.ciiva.com/15171/getdatasheetpartid-99150-15171488.pdf?src-supplier=Verical; ComponentLink3URL: https://datasheet.ciiva.com/1105/582309-1105221.pdf?src-supplier=Element14; ComponentLink3Description: https://datasheet.ciiva.com/1105/582309-1105221.pdf?src-supplier=Element14; ComponentLink4URL: https://datasheet.ciiva.com/682/eng-cd-1473005-j2-682726.pdf?src-supplier=Digi-Key; ComponentLink4Description: https://datasheet.ciiva.com/682/eng-cd-1473005-j2-682726.pdf?src-supplier=Digi-Key; ComponentLink5URL: https://datasheet.ciiva.com/14156/04821302-14156311.pdf?src-supplier=Distrelec; ComponentLink5Description: https://datasheet.ciiva.com/14156/04821302-14156311.pdf?src-supplier=Distrelec; ComponentLink6URL: https://datasheet.ciiva.com/3136/eng-cd-1473005-j-3136060.pdf?src-supplier=Avnet; ComponentLink6Description: https://datasheet.ciiva.com/3136/eng-cd-1473005-j-3136060.pdf?src-supplier=Avnet; ComponentLink7URL: https://datasheet.ciiva.com/16380/eng-cd-1473005-j-16380909.pdf?src-supplier=Future+Electronics; ComponentLink7Description: https://datasheet.ciiva.com/16380/eng-cd-1473005-j-16380909.pdf?src-supplier=Future+Electronics; ComponentLink8URL: https://datasheet.ciiva.com/16651/eng-cd-1473005-j-16651646.pdf?src-supplier=Avnet+Europe; ComponentLink8Description: https://datasheet.ciiva.com/16651/eng-cd-1473005-j-16651646.pdf?src-supplier=Avnet+Europe; ComponentLink9URL: http://www.farnell.com/datasheets/582309.pdf?src-supplier=Farnell; ComponentLink9Description: http://www.farnell.com/datasheets/582309.pdf?src-supplier=Farnell; Supplier Part Number 1: A114851-ND; Supplier 2: Avnet; Supplier 3: Newark; Supplier 4: Mouser; Supplier Part Number 2: 1473005-4; Supplier Part Number 3: 22K8810; Supplier Part Number 4: 571-1473005-4
footprint 1473005-4 (DDR2 SODIMM SOCKET 200P 5)
part A pins: 1 GND, 2 EMMC_DISABLE_N, 3 GPIO0, 4 NC/SDX_VDD/NC, 5 GPIO1, 6 NC/SDX_VDD/NC, 7 GND, 8 GND, 9 GPIO2, 10 NC/SDX_CLK/NC, 11 GPIO3, 12 NC/SDX_CMD/NC, 13 GND, 14 GND, 15 GPIO4, 16 NC/SDX_D0/NC, 17 GPIO5, 18 NC/SDX_D1/NC, 19 GND, 20 GND, 21 GPIO6, 22 NC/SDX_D2/NC, 23 GPIO7, 24 NC/SDX_D3/NC, 25 GND, 26 GND, 27 GPIO8, 28 GPIO28, 29 GPIO9, 30 GPIO29, 31 GND, 32 GND, 33 GPIO10, 34 GPIO30, 35 GPIO11, 36 GPIO31, 37 GND, 38 GND, 39 GPIO0-27_VDD, 40 GPIO0-27_VDD
part B pins: 41 GPIO28-45_VDD, 42 GPIO28-45_VDD, 43 GND, 44 GND, 45 GPIO12, 46 GPIO32, 47 GPIO13, 48 GPIO33, 49 GND, 50 GND, 51 GPIO14, 52 GPIO34, 53 GPIO15, 54 GPIO35, 55 GND, 56 GND, 57 GPIO16, 58 GPIO36, 59 GPIO17, 60 GPIO37, 61 GND, 62 GND, 63 GPIO18, 64 GPIO38, 65 GPIO19, 66 GPIO39, 67 GND, 68 GND, 69 GPIO20, 70 GPIO40, 71 GPIO21, 72 GPIO41, 73 GND, 74 GND, 75 GPIO22, 76 GPIO42, 77 GPIO23, 78 GPIO43, 79 GND, 80 GND, 81 GPIO24, 82 GPIO44, 83 GPIO25, 84 GPIO45, 85 GND, 86 GND, 87 GPIO26, 88 HDMI_HPD_N_1V8//GPIO46_1V8, 89 GPIO27, 90 EMMC_EN_N_1V8//GPIO47_1V8, 91 GND, 92 GND, 93 DSI0_DN1, 94 DSI1_DP0, 95 DSI0_DP1, 96 DSI1_DN0, 97 GND, 98 GND, 99 DSI0_DN0, 100 DSI1_CP, 101 DSI0_DP0, 102 DSI1_CN, 103 GND, 104 GND, 105 DSI0_CN, 106 DSI1_DP3, 107 DSI0_CP, 108 DSI1_DN3, 109 GND, 110 GND, 111 HDMI_CLK_N, 112 DSI1_DP2, 113 HDMI_CLK_P, 114 DSI1_DN2, 115 GND, 116 GND, 117 HDMI_D0_N, 118 DSI1_DP1, 119 HDMI_D0_P, 120 DSI1_DN1, 121 GND, 122 GND, 123 HDMI_D1_N, 124 NC, 125 HDMI_D1_P, 126 NC, 127 GND, 128 NC, 129 HDMI_D2_N, 130 NC, 131 HDMI_D2_P, 132 NC, 133 GND, 134 GND, 135 CAM1_DP3, 136 CAM0_DP0, 137 CAM1_DN3, 138 CAM0_DN0, 139 GND, 140 GND, 141 CAM1_DP2, 142 CAM0_CP, 143 CAM1_DN2, 144 CAM0_CN, 145 GND, 146 GND, 147 CAM1_CP, 148 CAM0_DP1, 149 CAM1_CN, 150 CAM0_DN1, 151 GND, 152 GND, 153 CAM1_DP1, 154 NC, 155 CAM1_DN1, 156 NC, 157 GND, 158 NC, 159 CAM1_DP0, 160 NC, 161 CAM1_DN0, 162 NC, 163 GND, 164 GND, 165 USB_DP, 166 TVDAC, 167 USB_DM, 168 USB_OTGID, 169 GND, 170 GND, 171 HDMI_CEC, 172 VC_TRST_N, 173 HDMI_SDA, 174 VC_TDI, 175 HDMI_SCL, 176 VC_TMS, 177 RUN, 178 VC_TDO, 179 VDD_CORE (DNC), 180 VC_TCK, 181 GND, 182 GND, 183 1V8, 184 1V8, 185 1V8, 186 1V8, 187 GND, 188 GND, 189 VDAC, 190 VDAC, 191 3V3, 192 3V3, 193 3V3, 194 3V3, 195 GND, 196 GND, 197 VBAT, 198 VBAT, 199 VBAT, 200 VBAT, MP1, MP2
part A text: Name Convention:; CM3/CM3Lite/CM1
part B text: Name Convention:; CM3/CM3Lite/CM1

## 10118194-0001LF
designator J?, comment Micro-B USB 2.0
CONN RCPT USB2.0 MICRO B SMD R/A USB - micro B USB 2.0 Receptacle Connector 5 Position Surface Mount, Right Angle; Through Hole; Manufacturer 1: Amphenol FCI; Manufacturer Part Number 1: 10118194-0001LF; Current Rating: 1.8A; Connector Type: USB,Receptacle; Number of Contacts: 5; Insulation Resistance: 1GR; Number of Ports: 1; Max Voltage Rating (AC): 100V; Pitch: 0.65mm; ComponentLink1URL: https://datasheet.ciiva.com/4598/10118194ac-197217-4598807.pdf?src-supplier=Mouser; ComponentLink1Description: https://datasheet.ciiva.com/4598/10118194ac-197217-4598807.pdf?src-supplier=Mouser; ComponentLink2URL: https://datasheet.ciiva.com/26945/getdatasheetpartid-418619-26945695.pdf?src-supplier=Verical; ComponentLink2Description: https://datasheet.ciiva.com/26945/getdatasheetpartid-418619-26945695.pdf?src-supplier=Verical; ComponentLink3URL: https://datasheet.ciiva.com/851/10118194-851110.pdf?src-supplier=Digi-Key; ComponentLink3Description: https://datasheet.ciiva.com/851/10118194-851110.pdf?src-supplier=Digi-Key; ComponentLink4URL: https://datasheet.ciiva.com/851/10118194-851111.pdf?src-supplier=Digi-Key; ComponentLink4Description: https://datasheet.ciiva.com/851/10118194-851111.pdf?src-supplier=Digi-Key; Supplier 1: Digi-Key; Stock 1: 69726; Pricing 1: 1=0.43000, 10=0.40500, 25=0.36440, 50=0.32400, 100=0.31040, 250=0.28344, 500=0.26994 (USD); RoHS: Yes; Mount: Surface Mount,Horizontal; Color: Black; Contact Material: Copper Alloy; Contact Plating: Gold; Number of Terminals: 5; Housing Material: Polymer; Min Operating Temperature: -55°C; Max Operating Temperature: 85°C; Package Quantity: 9600; Packaging: Tape and Reel; Gender: Receptacle; Termination: Solder; Orientation: Right Angle; Features: Shielded; Length: 8.05mm; Depth: 5mm; Radiation Hardening: No; Lead Free: Lead Free; Flammability Rating: UL94 V-0; Supplier Part Number 1: 609-4618-1-ND
footprint 10118194-0001LF (FCI-10118194-0001LF-5_V SMD, 5-Leads, Body 7x5mm, Pitch 0.65 mm)
pins: 1 VBUS, 2 D-, 3 D+, 4 ID, 5 GND, 6 SHLD1, 7 SHLD2, 8 SHLD3, 9 SHLD4, 10 SHLD5, 11 SHLD6

## 20021121-00006C4LF
designator J?
CONN HEADER SMD 6POS 1.27MM; Manufacturer 1: Amphenol FCI; Number of Contacts: 6; Contact Resistance: 30mR; Current Rating: 1A; Voltage Rating: 125V; Insulation Resistance: 100MR; Gender: Male; Connector Type: Male Pin,Header; Row Spacing: 0.05inch; Stack Height: 3mm; RoHS: Yes; Mount: Surface Mount; Contact Plating: Gold; Contact Material: Copper Alloy,Copper,Gold; Color: Black; Housing Color: Black; Housing Material: Thermoplastic; Min Operating Temperature: -40°C; Max Operating Temperature: 85°C; Number of Rows: 2; Termination: Solder; Packaging: Tape and Reel; Package Quantity: 600; Number of Positions: 6; Max Voltage Rating (AC): 125V; Orientation: Straight; Length: 3.81mm; Pitch: 1.27mm; Contact Mating Length: 0.12inch; Depth: 3.4mm; Radiation Hardening: No; REACH SVHC: No SVHC; ComponentLink1URL: https://datasheet.ciiva.com/11746/0900766b8118d62a-11746931.pdf?src-supplier=RSComponents; ComponentLink1Description: https://datasheet.ciiva.com/11746/0900766b8118d62a-11746931.pdf?src-supplier=RSComponents; ComponentLink2URL: https://datasheet.ciiva.com/17081/0900766b8118d62a-17081726.pdf?src-supplier=Allied+Electronics; ComponentLink2Description: https://datasheet.ciiva.com/17081/0900766b8118d62a-17081726.pdf?src-supplier=Allied+Electronics; ComponentLink3URL: https://datasheet.ciiva.com/26853/getdatasheetpartid-177142-26853982.pdf?src-supplier=Verical; ComponentLink3Description: https://datasheet.ciiva.com/26853/getdatasheetpartid-177142-26853982.pdf?src-supplier=Verical; ComponentLink4URL: https://datasheet.ciiva.com/410/20021121-410209.pdf?src-supplier=Digi-Key; ComponentLink4Description: https://datasheet.ciiva.com/410/20021121-410209.pdf?src-supplier=Digi-Key; ComponentLink5URL: https://datasheet.ciiva.com/409/20021121-409858.pdf?src-supplier=Digi-Key; ComponentLink5Description: https://datasheet.ciiva.com/409/20021121-409858.pdf?src-supplier=Digi-Key; ComponentLink6URL: https://datasheet.ciiva.com/410/20021121-410210.pdf?src-supplier=Digi-Key; ComponentLink6Description: https://datasheet.ciiva.com/410/20021121-410210.pdf?src-supplier=Digi-Key; ComponentLink7URL: https://datasheet.ciiva.com/9474/20021121-9474135.pdf?src-supplier=Avnet; ComponentLink7Description: https://datasheet.ciiva.com/9474/20021121-9474135.pdf?src-supplier=Avnet; ComponentLink8URL: https://datasheet.ciiva.com/16691/20021121-16691017.pdf?src-supplier=Avnet+Europe; ComponentLink8Description: https://datasheet.ciiva.com/16691/20021121-16691017.pdf?src-supplier=Avnet+Europe; ComponentLink9URL: https://datasheet.ciiva.com/1433/20021121-1433278.pdf?src-supplier=Element14; ComponentLink9Description: https://datasheet.ciiva.com/1433/20021121-1433278.pdf?src-supplier=Element14; Supplier 1: Digi-Key; Manufacturer Part Number 1: 20021121-00006C4LF; Stock 1: 7041; Pricing 1: 1=0.57000, 10=0.53700, 100=0.41160 (USD); Supplier 2: Digi-Key; Supplier Part Number 1: 609-3693-1-ND; Supplier Part Number 2: 609-3693-2-ND
footprint 20021121-00006C4LF
pins: 1, 2, 3, 4, 5, 6

## 20021121-00010T1LF
designator J?
CONN HEADER SMD 10POS 1.27MM; Manufacturer 1: Amphenol FCI; Number of Contacts: 10; Contact Resistance: 30mR; Max Voltage Rating (AC): 125V; Connector Type: Male Pin; Row Spacing: 0.05inch; Supplier 1: Digi-Key; Manufacturer Part Number 1: 20021121-00010T1LF; Stock 1: 1465; Pricing 1: 1=0.77000, 10=0.71800, 100=0.55040, 500=0.47860, 1000=0.39485, 5000=0.34699, 10000=0.32306 (USD); RoHS: Yes; Mount: Surface Mount; Contact Plating: Gold; Color: Black; Contact Material: Copper Alloy; Housing Color: Black; Housing Material: Thermoplastic; Min Operating Temperature: -40°C; Max Operating Temperature: 85°C; Number of Rows: 2; Termination: Solder; Package Quantity: 93; Packaging: Rail/Tube; Number of Positions: 10; Orientation: Straight; Length: 6.35mm; Pitch: 1.27mm; Contact Mating Length: 0.12inch; Depth: 3.4mm; ComponentLink1URL: https://datasheet.ciiva.com/18659/20021121-18659066.pdf?src-supplier=Digi-Key; ComponentLink1Description: https://datasheet.ciiva.com/18659/20021121-18659066.pdf?src-supplier=Digi-Key; ComponentLink2URL: https://datasheet.ciiva.com/10033/20021121-10033582.pdf?src-supplier=Avnet; ComponentLink2Description: https://datasheet.ciiva.com/10033/20021121-10033582.pdf?src-supplier=Avnet; Supplier Part Number 1: 609-6529-ND; Supplier 2: Mouser; Supplier 3: TTI; Supplier Part Number 2: 649-200211210010T1LF; Supplier Part Number 3: 20021121-00010T1LF
footprint 20021121-00010T1LF (Connector Header Surface Mount 10 position 0.050" (1.27mm)   Contact length: 0.120" (3.05mm))
pins: 1, 2, 3, 4, 5, 6, 7, 8, 9, 10

## 20021121-00020T1LF
designator J?
CONN HEADER SMD 20POS 1.27MM Connector Header Surface Mount 20 position 0.050" (1.27mm); Manufacturer 1: Amphenol FCI; Contact Resistance: 30mR; Number of Positions: 20; Max Voltage Rating (AC): 125V; Connector Type: Male Pin; Row Spacing: 0.05inch; Supplier 1: Avnet; Manufacturer Part Number 1: 20021121-00020T1LF; Stock 1: 0; Pricing 1: 1840=0.65487, 3680=0.63909, 7360=0.62487, 11040=0.61127, 18400=0.60354 (USD); RoHS: Yes; Mount: Surface Mount; Contact Plating: Gold; Contact Material: Copper Alloy; Color: Black; Housing Color: Black; Housing Material: Thermoplastic; Min Operating Temperature: -40°C; Max Operating Temperature: 85°C; Packaging: Rail/Tube; Package Quantity: 46; Number of Rows: 2; Termination: Solder; Number of Contacts: 20; Orientation: Straight; Length: 12.7mm; Pitch: 1.27mm; Contact Mating Length: 0.12inch; Depth: 3.4mm; ComponentLink1URL: https://datasheet.ciiva.com/18660/20021121-18660311.pdf?src-supplier=Digi-Key; ComponentLink1Description: https://datasheet.ciiva.com/18660/20021121-18660311.pdf?src-supplier=Digi-Key; ComponentLink2URL: https://datasheet.ciiva.com/10033/20021121-10033355.pdf?src-supplier=Avnet; ComponentLink2Description: https://datasheet.ciiva.com/10033/20021121-10033355.pdf?src-supplier=Avnet; Supplier Part Number 1: 20021121-00020T1LF
footprint 20021121-00020T1LF (20pin SMT Minitek127 1.27mm pitch)
pins: 1, 2, 3, 4, 5, 6, 7, 8, 9, 10, 11, 12, 13, 14, 15, 16, 17, 18, 19, 20

## 744029001
designator L?, comment 1uH 2.2A
FIXED IND 1UH 2.2A 55 MOHM SMD; Manufacturer 1: Würth Elektronik; Manufacturer Part Number 1: 744029001; Core Material: Ferrite; Inductance Tolerance: 30%; Self Resonant Frequency: 150MHz; Shielding: Shielded; Saturation Current: 1.6A; Test Frequency: 100kHz; Max DC Current: 2.5A; DC Resistance (DCR): 55mR; Supplier 1: Digi-Key; Stock 1: 6333; Pricing 1: 1=1.43000, 10=1.38900, 50=1.21500, 100=1.14600, 500=0.98000 (USD); Mount: Surface Mount; Case/Package: Nonstandard; Number of Pins: 2; Weight: 0.001129oz; Min Operating Temperature: -40°C; Max Operating Temperature: 125°C; Packaging: Cut Tape; Tolerance: 30%; Package Quantity: 1200; Composition: Wirewound; Termination: SMD/SMT; RMS Current (Irms): 2.2A; Length: 2.8mm; Height: 1.35mm; Width: 2.8mm; Height - Seated (Max): 0.059inch; Depth: 2.8mm; REACH SVHC: Unknown; ComponentLink1URL: https://datasheet.ciiva.com/6700/744029001-6700272.pdf?src-supplier=Digi-Key; ComponentLink1Description: https://datasheet.ciiva.com/6700/744029001-6700272.pdf?src-supplier=Digi-Key; ComponentLink2URL: https://datasheet.ciiva.com/7892/1695958-7892544.pdf?src-supplier=Element14; ComponentLink2Description: https://datasheet.ciiva.com/7892/1695958-7892544.pdf?src-supplier=Element14; ComponentLink3URL: https://datasheet.ciiva.com/11802/0900766b80d7f19c-11802021.pdf?src-supplier=RSComponents; ComponentLink3Description: https://datasheet.ciiva.com/11802/0900766b80d7f19c-11802021.pdf?src-supplier=RSComponents; ComponentLink4URL: https://datasheet.ciiva.com/4961/744029001-51943-4961031.pdf?src-supplier=Mouser; ComponentLink4Description: https://datasheet.ciiva.com/4961/744029001-51943-4961031.pdf?src-supplier=Mouser; ComponentLink5URL: https://datasheet.ciiva.com/14123/744029001-ch-ger-eng-ds-14123819.pdf?src-supplier=Distrelec; ComponentLink5Description: https://datasheet.ciiva.com/14123/744029001-ch-ger-eng-ds-14123819.pdf?src-supplier=Distrelec; ComponentLink6URL: https://datasheet.ciiva.com/48691/001087128-da-01-ml-we-tpc-smd-speicherdrossel-7440290-de-en-48691052.pdf?src-supplier=Conrad; ComponentLink6Description: https://datasheet.ciiva.com/48691/001087128-da-01-ml-we-tpc-smd-speicherdrossel-7440290-de-en-48691052.pdf?src-supplier=Conrad; ComponentLink7URL: http://datasheet.octopart.com/744029001-W%C3%BCrth-Elektronik-datasheet-41342332.pdf?src-supplier=Farnell; ComponentLink7Description: http://datasheet.octopart.com/744029001-W%C3%BCrth-Elektronik-datasheet-41342332.pdf?src-supplier=Farnell; ComponentLink8URL: http://datasheet.octopart.com/744029001-W%C3%BCrth-Elektronik-Midcom-datasheet-8825385.pdf?src-supplier=Allied+Electronics; ComponentLink8Description: http://datasheet.octopart.com/744029001-W%C3%BCrth-Elektronik-Midcom-datasheet-8825385.pdf?src-supplier=Allied+Electronics; ComponentLink9URL: http://datasheet.octopart.com/744029001-W%C3%BCrth-Elektronik-datasheet-11479723.pdf?src-supplier=Element14; ComponentLink9Description: http://datasheet.octopart.com/744029001-W%C3%BCrth-Elektronik-datasheet-11479723.pdf?src-supplier=Element14; ComponentLink10URL: http://datasheet.octopart.com/744029001-W%C3%BCrth-Elektronik-Midcom-datasheet-5398421.pdf?src-supplier=Farnell; ComponentLink10Description: http://datasheet.octopart.com/744029001-W%C3%BCrth-Elektronik-Midcom-datasheet-5398421.pdf?src-supplier=Farnell; ComponentLink11URL: http://datasheet.octopart.com/744029001-W%C3%BCrth-Elektronik-datasheet-21228189.pdf?src-supplier=Newark; ComponentLink11Description: http://datasheet.octopart.com/744029001-W%C3%BCrth-Elektronik-datasheet-21228189.pdf?src-supplier=Newark; Supplier Part Number 1: 732-1086-1-ND; Inductance: 1uH; Current Rating: 2.2A; Supplier 2: Farnell; Manufacturer 2: Wurth Electronics; Manufacturer Part Number 2: 744029001; Stock 2: 1001; Pricing 2: 1=1.22000, 5=0.98100, 10=0.86600, 20=0.77400, 40=0.75300, 100=0.73000, 500=0.70900 (GBP); RoHS: Yes; Supplier Part Number 2: 1635825
footprint 744029001
pins: 1, 2

## 971110154
designator MP?, comment BRASS SPACER STUD METRIC THREAD  (mechanical)
Hex Standoff Threaded M2.5 Brass 11.00mm B2B, 6mm threading.; Manufacturer 1: Wurth Electronics; Manufacturer Part Number 1: 971110154; Supplier 1: Digi-Key; Stock 1: 2669; Pricing 1: 1=0.89000, 10=0.84200, 50=0.74980, 100=0.65790, 500=0.61200, 2000=0.58140 (USD); RoHS: Yes; Supplier 2: Mouser; Supplier Part Number 1: 732-12923-ND; Supplier Part Number 2: 710-971110154
footprint 971110154 (Hex Standoff Threaded M2.5 Brass 0.433" (11.00mm) Silver)